# EAGLE library part EL7182CN (library Intersil_By_element14_Batch_1)
High Speed CCD Driver
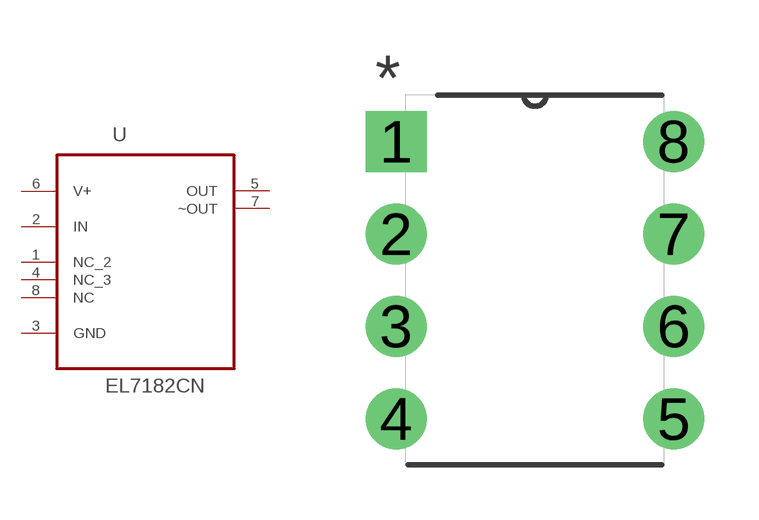
[diagram p69: symbol with the pads of DIP254P762X533-8; footprint DIP254P762X533-8]

Designator prefix U

## EL7182CN (MPN: EL7182CN; OC_FARNELL: 7613040; OC_NEWARK: 62H5090; PACKAGE: 8-DIP; SUPPLIER: Intersil)  [DIP254P762X533-8]
1  NC_2  nc
2  IN  in
3  GND  pas
4  NC_3  nc
5  OUT  out
6  V+  pwr
7  ~OUT  out
8  NC  nc

## Footprint DIP254P762X533-8 (pad centres in mm)
drill 1.118 square: 1 -7.62,7.62
drill 1.118: 2 -7.62,5.08; 3 -7.62,2.54; 4 -7.62,0; 5 0,0; 6 0,2.54; 7 0,5.08; 8 0,7.62